# EAGLE library part 8P (library JST)
Disconnectable Crimp style connector, 1.0mm pitch 8 contacts
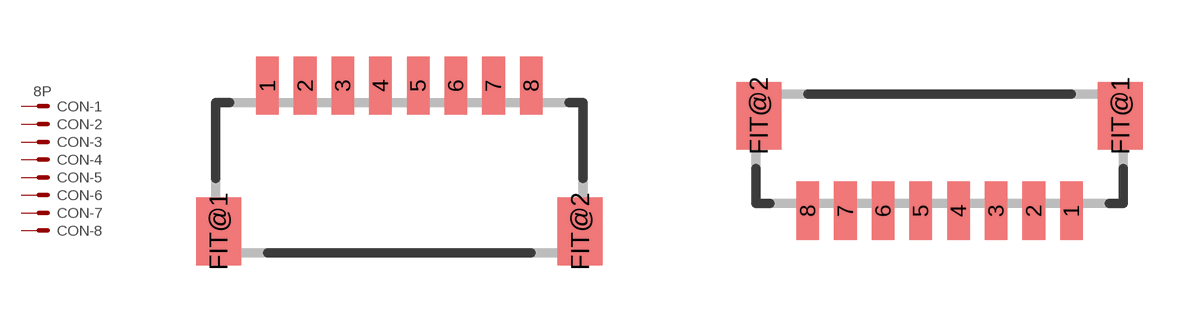
[diagram p2: symbol with the pads of SH-08-SIDE; footprints SH-08-SIDE, SH-08-TOP]

Designator prefix CON; gates -1=KV -2=K -3=K -4=K -5=K -6=K -7=K -8=K

## 8P-SH-SIDE  [SH-08-SIDE]
1  -1:S  pas
2  -2:S  pas
3  -3:S  pas
4  -4:S  pas
5  -5:S  pas
6  -6:S  pas
7  -7:S  pas
8  -8:S  pas

## 8P-SH-TOP  [SH-08-TOP]
Pads as for SH-08-SIDE

## Footprint SH-08-SIDE (pad centres in mm)
Shrouded Header, side entry type
smd 0.6 x 1.55: 1 -3.5,2.975; 2 -2.5,2.975; 3 -1.5,2.975; 4 -0.5,2.975; 5 0.5,2.975; 6 1.5,2.975; 7 2.5,2.975; 8 3.5,2.975
smd 1.2 x 1.8: FIT@1 -4.8,-0.9; FIT@2 4.8,-0.9

## Footprint SH-08-TOP (pad centres in mm)
Shrouded Header, top entry type
smd 0.6 x 1.55: 1 3.5,-1.625; 2 2.5,-1.625; 3 1.5,-1.625; 4 0.5,-1.625; 5 -0.5,-1.625; 6 -1.5,-1.625; 7 -2.5,-1.625; 8 -3.5,-1.625
smd 1.2 x 1.8: FIT@1 4.8,0.9; FIT@2 -4.8,0.9